# Altium schematic symbol library Библиотеки.SchLib: 10 symbols
Pins are listed as number, name and electrical type; pins without a type are passive.

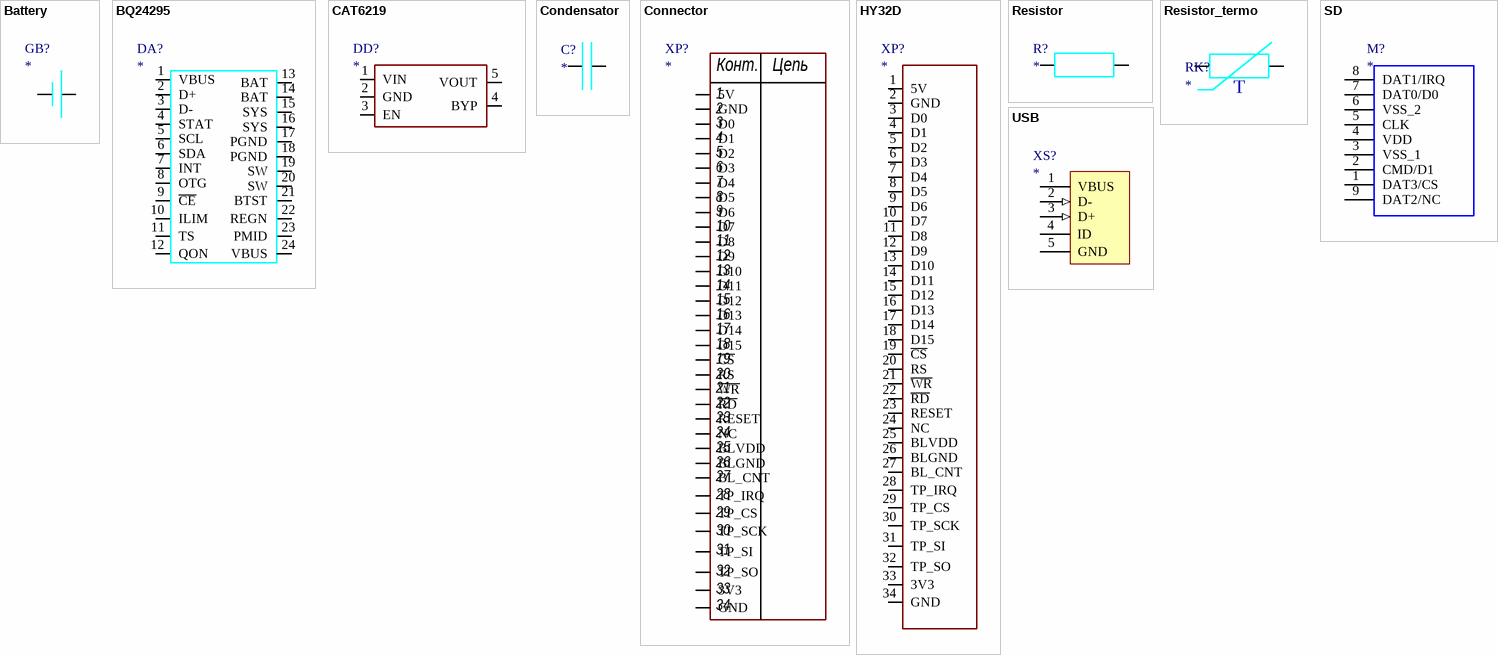
[diagram p0: symbols Battery to USB]

## Battery
designator GB?
footprint Battery
pins: 1, 2

## BQ24295
designator DA?
footprint BQ24295 (QFN, 24-Leads, Body 4,00x4,00mm, Pitch 0,50mm, Thermal Pad 3,00x3,00mm, IPC Medium Density)
pins: 1 VBUS, 2 D+, 3 D-, 4 STAT, 5 SCL, 6 SDA, 7 INT, 8 OTG, 9 ~{CE}, 10 ILIM, 11 TS, 12 QON, 13 BAT, 14 BAT, 15 SYS, 16 SYS, 17 PGND, 18 PGND, 19 SW, 20 SW, 21 BTST, 22 REGN, 23 PMID, 24 VBUS

## CAT6219
designator DD?
footprint CAT6219 (SOT23, 5-Leads, Body 2,90x2,80mm, Pitch 0,95mm, IPC Medium Density)
pins: 1 VIN, 2 GND, 3 EN, 4 BYP, 5 VOUT

## Condensator
designator C?
footprint Condensator (k50-29) (Chip Capacitor, 2-Leads, Body 2,00x1,25mm, IPC Medium Density)
footprint 0805 (Capacitor) (Chip Capacitor, 2-Leads, Body 2,00x1,25mm, IPC Medium Density)
pins: 1, 2

## Connector
designator XP?
footprint Connector
pins: 1 5V, 2 GND, 3 D0, 4 D1, 5 D2, 6 D3, 7 D4, 8 D5, 9 D6, 10 D7, 11 D8, 12 D9, 13 D10, 14 D11, 15 D12, 16 D13, 17 D14, 18 D15, 19 ~{CS}, 20 RS, 21 ~{WR}, 22 ~{RD}, 23 RESET, 24 NC, 25 BLVDD, 26 BLGND, 27 BL_CNT, 28 TP_IRQ, 29 TP_CS, 30 TP_SCK, 31 TP_SI, 32 TP_SO, 33 3V3, 34 GND
text: Конт.; Цепь

## HY32D
designator XP?
footprint HY32D
pins: 1 5V, 2 GND, 3 D0, 4 D1, 5 D2, 6 D3, 7 D4, 8 D5, 9 D6, 10 D7, 11 D8, 12 D9, 13 D10, 14 D11, 15 D12, 16 D13, 17 D14, 18 D15, 19 ~{CS}, 20 RS, 21 ~{WR}, 22 ~{RD}, 23 RESET, 24 NC, 25 BLVDD, 26 BLGND, 27 BL_CNT, 28 TP_IRQ, 29 TP_CS, 30 TP_SCK, 31 TP_SI, 32 TP_SO, 33 3V3, 34 GND

## Resistor
designator R?
footprint RC_0805 (Resistor) (Chip Resistor, 2-Leads, Body 2,10x1,30mm, IPC Medium Density)
pins: 1, 2

## Resistor_termo
designator RK?
footprint RC_0805 (Resistor) (Chip Resistor, 2-Leads, Body 2,10x1,30mm, IPC Medium Density)
pins: 1, 2
text: T

## SD
designator M?
footprint SD_card
pins: 1 DAT3/CS "CD/DAT3", 2 CMD/D1, 3 VSS_1 "VSS1", 4 VDD, 5 CLK "CLK/SCLK", 6 VSS_2 "VSS2", 7 DAT0/D0 "DAT0", 8 DAT1/IRQ "DAT1", 9 DAT2/NC "DAT3"

## USB
designator XS?
footprint USB
pins: 1 VBUS (power) "Power", 2 D- (in) "-DATA", 3 D+ (in) "+DATA", 4 ID, 5 GND (power) "Ground"